# Altium footprint library SOT23-5P95_280X117L45X40N.PcbLib: 1 footprints
Each footprint in its own frame and in the unit in brackets; x right, y up, seen from the top. Pads: shape width x height; smd on the part's side, far side on the other; paste and mask are expansions set on the pad; w line width, h text height; cw(c..) or ccw(c..) is an arc to the next point about the centre after c.
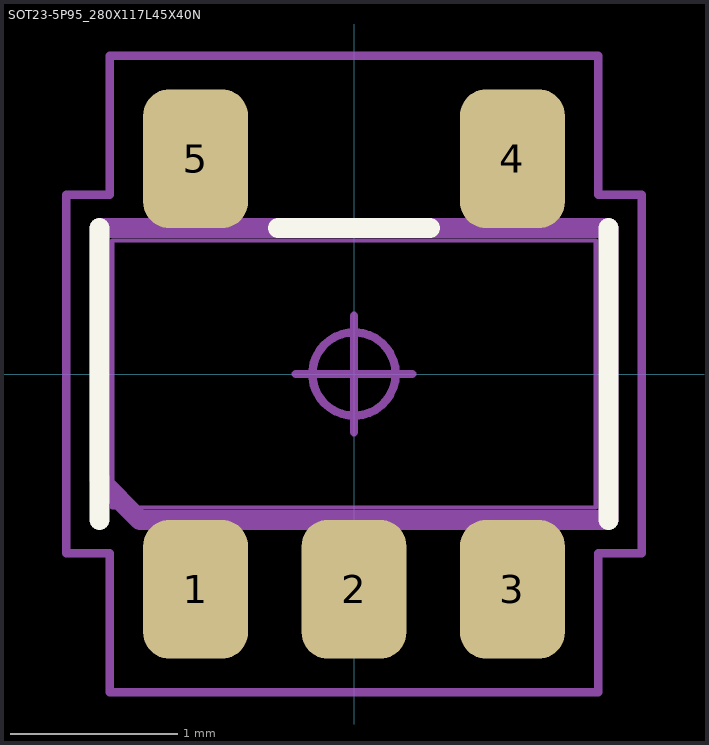
[diagram p0: the footprint, top view; thin cyan lines are the x and y axes]

## SOT23-5P95_280X117L45X40N [mm] "Small Outline Transistor, SOT-23 Type, 0.95 mm pitch; 5 pin, 2.90 mm L X 1.60 mm W X 1.45 mm H Body"
height 1.45
pads (5):
  rrect50% 0.629x0.833 smd: 1(-0.95,-1.291) 2(0,-1.291) 3(0.95,-1.291) 4(0.95,1.291) 5(-0.95,1.291)
Top Overlay:
  lines w0.12: -1.525,-0.875 -1.525,0.875 ; -0.455,0.875 0.455,0.875 ; 1.525,-0.875 1.525,0.875
Mechanical 3:
  lines w0.12: -1.525,-0.634 -1.284,-0.875 1.525,-0.875 1.525,0.875 -1.525,0.875 -1.525,-0.634
Mechanical 5:
  lines w0.025: -1.45,-0.8 -1.45,0.8 1.45,0.8 1.45,-0.8 -1.45,-0.8 ; -1.15,-1.4 -0.75,-1.4 -0.75,-0.95 -1.15,-0.95 -1.15,-1.4 ; -1.15,0.95 -0.75,0.95 -0.75,1.4 -1.15,1.4 -1.15,0.95 ; -0.2,-1.4 0.2,-1.4 0.2,-0.95 -0.2,-0.95 -0.2,-1.4 ; 0.75,-1.4 1.15,-1.4 1.15,-0.95 0.75,-0.95 0.75,-1.4 ; 0.75,0.95 1.15,0.95 1.15,1.4 0.75,1.4 0.75,0.95
Mechanical 7:
  circle w0.05: c0,0 r0.25
  lines w0.05: -0.35,0 0.35,0 ; 0,-0.35 0,0.35 ; -1.725,-1.075 -1.725,1.075 -1.465,1.075 -1.465,1.908 1.465,1.908 1.465,1.075 1.725,1.075 1.725,-1.075 1.465,-1.075 1.465,-1.908 -1.465,-1.908 -1.465,-1.075 -1.725,-1.075
Mechanical 9:
  text "'.Designator'" at -5.309,-0.271 h1.02
3D body "SOT23-5P95_280X117L45X40.STEP": height 1.45, standoff 0, extent -1.45,-1.4 1.45,1.4
3D body: height 23.4, standoff -5, extent -1.725,-1.908 1.725,1.908